# Altium footprint library Transistors.PcbLib: 1 footprints
Each footprint in its own frame and in the unit in brackets; x right, y up, seen from the top. Pads: shape width x height; smd on the part's side, far side on the other; paste and mask are expansions set on the pad; w line width, h text height; cw(c..) or ccw(c..) is an arc to the next point about the centre after c.
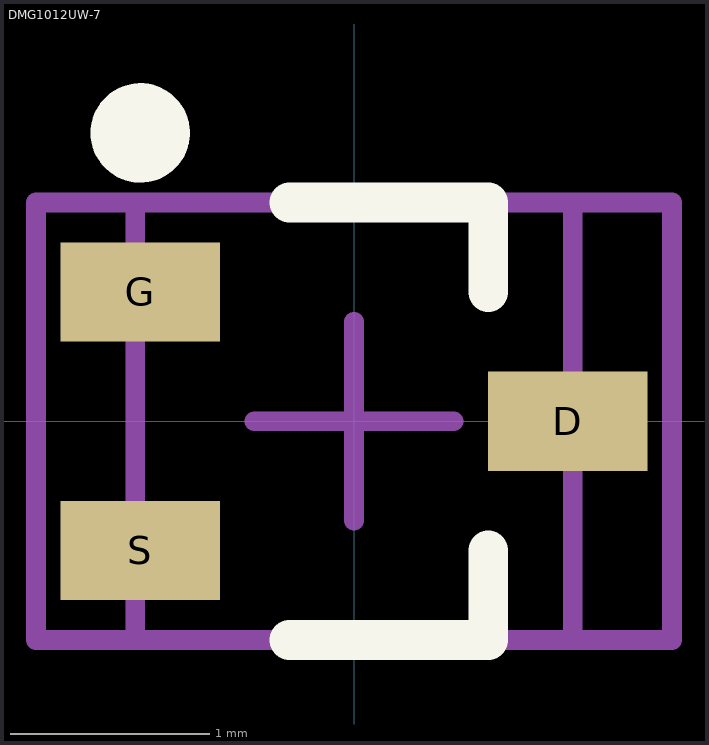
[diagram p0: the footprint, top view; thin cyan lines are the x and y axes]

## DMG1012UW-7 [mm] "SOT23, 3-Leads, Body 2,00x2,10mm, Pitch 0,65mm, IPC Medium Density"
height 1.1
pads (3):
  rect 0.8x0.5 smd: D(1.075,0) G(-1.075,0.65) S(-1.075,-0.65)
Top Overlay:
  circle w0.25: c-1.075,1.45 r0.125
  lines w0.2: -0.325,-1.1 0.675,-1.1 0.675,-0.65 ; -0.325,1.1 0.675,1.1 0.675,0.65
Top Assembly:
  lines w0.1: -1.1,-1.1 1.1,-1.1 1.1,1.1 -1.1,1.1 -1.1,-1.1
Top Component Center:
  lines w0.1: -0.5,0 0.5,0 ; 0,-0.5 0,0.5
Top Component Outline:
  lines w0.1: -1.1,-1.1 -1.1,1.1 1.1,1.1 1.1,-1.1 -1.1,-1.1
Top Courtyard:
  lines w0.1: -1.6,-1.1 1.6,-1.1 1.6,1.1 -1.6,1.1 -1.6,-1.1
Top Designator:
  text "''.Designator''" at 0,0 h2
Top Value:
  text "''.Comment''" at 0,0 h2
3D body "SOT65P210X110-3N.step": height 1.1, standoff 0, extent -1.1,-1.1 1.1,1.1